# Altium schematic symbol library Diodes.SchLib: 1 symbol
Pins are listed as number, name and electrical type; pins without a type are passive.

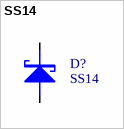
[diagram p0: symbol SS14]

## SS14
designator D?
Surface mount schottky diode DO-214AC(SMA) Package
footprint SMT_DIODE_DO_214AC (DO-214AC(SMA) Package)
pins: 1 A, 2 K